# EAGLE library part MC34063AD (library MC34063AD)
Texas Instruments MC34063AD, Step-Down/Up DC-DC Converter, 1.5A, 1.55 40 V, 8-Pin SOIC Source: Datasheet <http://www.ti.com/lit/gpn/mc34063a>
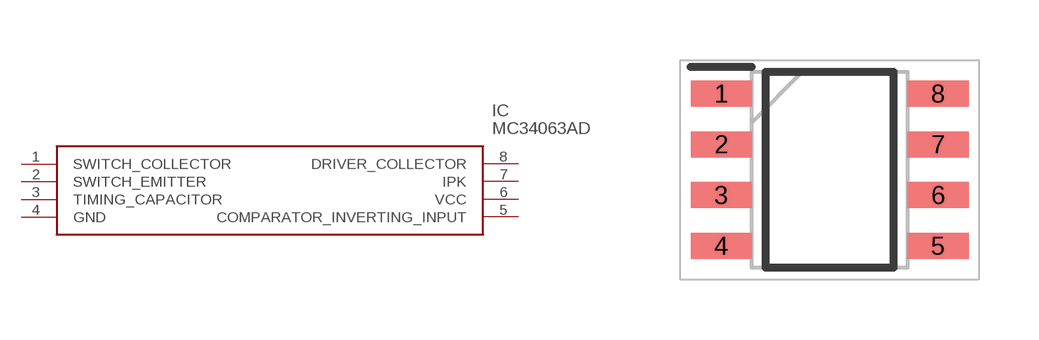
[diagram p0: symbol with the pads of SOIC127P600X175-8N; footprint SOIC127P600X175-8N]

Designator prefix IC

## MC34063AD (Arrow_Part_Number: MC34063AD; Arrow_Price-Stock: https://www.arrow.com/en/products/mc34063ad/texas-instruments?region=nac; Description: Texas Instruments MC34063AD, Step-Down/Up DC-DC Converter, 1.5A, 1.55 40 V, 8-Pin SOIC; Height: 1.75mm; Manufacturer_Name: Texas Instruments; Manufacturer_Part_Number: MC34063AD; Mouser_Part_Number: 595-MC34063AD; Mouser_Price-Stock: https://www.mouser.co.uk/ProductDetail/Texas-Instruments/MC34063AD?qs=paYhMW8qfiu9F0uJ%2FIS%252Baw%3D%3D)  [SOIC127P600X175-8N]
1  SWITCH_COLLECTOR
2  SWITCH_EMITTER
3  TIMING_CAPACITOR
4  GND
5  COMPARATOR_INVERTING_INPUT
6  VCC
7  IPK
8  DRIVER_COLLECTOR

## Footprint SOIC127P600X175-8N (pad centres in mm)
D0008A SOIC
smd 1.528 x 0.65: 1 -2.711,1.905; 2 -2.711,0.635; 3 -2.711,-0.635; 4 -2.711,-1.905; 5 2.711,-1.905; 6 2.711,-0.635; 7 2.711,0.635; 8 2.711,1.905